# Altium footprint library ICs And Semiconductors SMD.PcbLib: 35 footprints (part 3 of 3)
Each footprint in its own frame and in the unit in brackets; x right, y up, seen from the top. Pads: shape width x height; smd on the part's side, far side on the other; paste and mask are expansions set on the pad; w line width, h text height; cw(c..) or ccw(c..) is an arc to the next point about the centre after c.
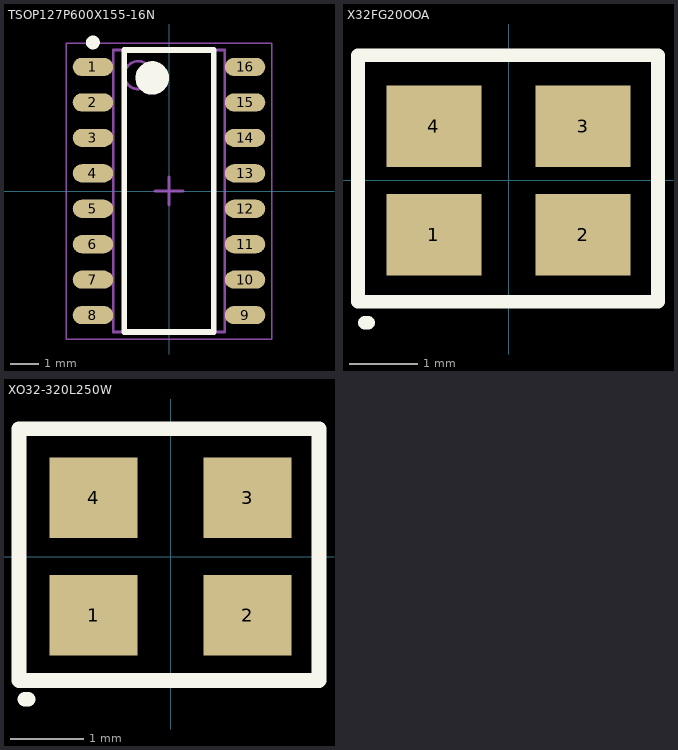
[diagram p2: the footprints below, top view; thin cyan lines are the x and y axes]

## TSOP127P600X155-16N [mm] "TSOP, 16-Leads, Body 10.00x3.90mm, Pitch 1.27mm, IPC Medium Density"
height 1.55
pads (16):
  oval 1.45x0.65 smd: 1(-2.725,4.445) 2(-2.725,3.175) 3(-2.725,1.905) 4(-2.725,0.635) 5(-2.725,-0.635) 6(-2.725,-1.905) 7(-2.725,-3.175) 8(-2.725,-4.445) 9(2.725,-4.445) 10(2.725,-3.175) 11(2.725,-1.905) 12(2.725,-0.635) 13(2.725,0.635) 14(2.725,1.905) 15(2.725,3.175) 16(2.725,4.445)
Top Overlay:
  circle w0.6: c-0.6,4.05 r0.3
  circle w0.25: c-2.725,5.32 r0.125
  lines w0.2: -1.6,-5.05 1.6,-5.05 1.6,5.05 -1.6,5.05 -1.6,-5.05
Mechanical 13:
  circle w0.1: c-1.1,4.15 r0.5
  lines w0.1: -2,-5.05 2,-5.05 2,5.05 -2,5.05 -2,-5.05
Mechanical 15:
  lines w0.05: -3.675,-5.3 3.675,-5.3 3.675,5.3 -3.675,5.3 -3.675,-5.3
  lines w0.1: -0.5,0 0.5,0 ; 0,-0.5 0,0.5
3D body "TSOP127P600X155-16N.step": height 1.55, standoff 0, extent -3,-5.05 3,5.05

## X32FG20OOA [mm] "北京晶宇兴科技，X32F，8MHz ~ 50MHz"
pads (4):
  rect 1.4x1.2 smd: 1(-1.1,-0.8) 2(1.1,-0.8) 3(1.1,0.8) 4(-1.1,0.8)
Top Overlay:
  lines w0.2: -2.116,-2.095 -2.065,-2.095 ; -2.218,-1.791 -2.218,1.842 2.202,1.842 2.202,-1.791 -2.218,-1.791

## XO32-320L250W [mm] "北京晶宇兴科技，XO32系列晶振，3.2mm L X 2.5mm W X 1.2mm H"
height 1.2
pads (4):
  rect 1.2x1.1 smd: 1(-1.05,-0.8) 2(1.05,-0.8) 3(1.05,0.8) 4(-1.05,0.8)
Top Overlay:
  lines w0.2: -1.99,-1.943 -1.939,-1.943 ; -2.066,-1.689 -2.066,1.74 2.023,1.74 2.023,-1.689 -2.066,-1.689